# EAGLE library part SG3525 (library linear)
PULSE WIDTH MODULATOR CONTROL CIRCUITS http://www.alldatasheet.com/datasheet-pdf/pdf/5632/MOTOROLA/SG3525.html?
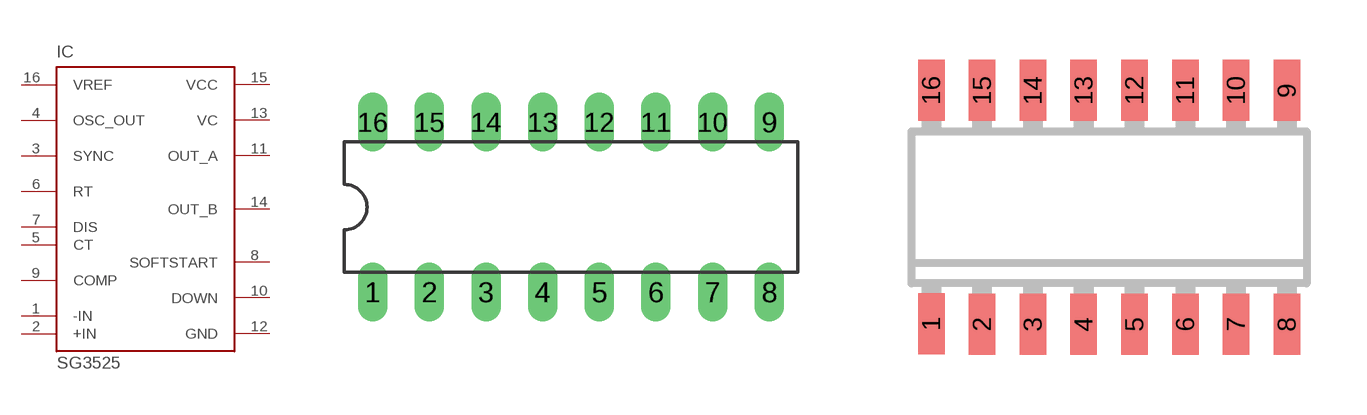
[diagram p267: symbol with the pads of DIL16; footprints DIL16, SO16]

Designator prefix IC

## SG3525P, SG3525PP  [DIL16]
1  -IN  in
2  +IN  in
3  SYNC  in
4  OSC_OUT  in
5  CT  in
6  RT  in
7  DIS  in
8  SOFTSTART  in
9  COMP  pas
10  DOWN  in
11  OUT_A  out
12  GND  pwr
13  VC  pas
14  OUT_B  out
15  VCC  pwr
16  VREF  in

## SG3525D  [SO16]
Pads as for DIL16

## Footprint DIL16 (pad centres in mm)
Dual In Line Package
drill 0.813 long: 1 -8.89,-3.81; 2 -6.35,-3.81; 3 -3.81,-3.81; 4 -1.27,-3.81; 5 1.27,-3.81; 6 3.81,-3.81; 7 6.35,-3.81; 8 8.89,-3.81; 9 8.89,3.81; 10 6.35,3.81; 11 3.81,3.81; 12 1.27,3.81; 13 -1.27,3.81; 14 -3.81,3.81; 15 -6.35,3.81; 16 -8.89,3.81

## Footprint SO16 (pad centres in mm)
Small Outline Package 16
smd 0.66 x 1.524: 1 -4.445,-2.906; 2 -3.175,-2.923; 3 -1.905,-2.923; 4 -0.635,-2.923; 5 0.635,-2.923; 6 1.905,-2.923; 7 3.175,-2.923; 8 4.445,-2.923; 9 4.445,2.923; 10 3.175,2.923; 11 1.905,2.923; 12 0.635,2.923; 13 -0.635,2.923; 14 -1.905,2.923; 15 -3.175,2.923; 16 -4.445,2.923